# EAGLE library part SN74LVC2G34DCKR (library timearc)
DUAL BUFFER GATE
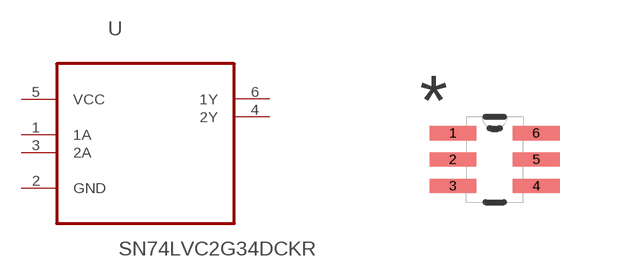
[diagram p5: symbol with the pads of SOT65P210X110-6N; footprint SOT65P210X110-6N]

Designator prefix U

## SN74LVC2G34DCKR (MPN: SN74LVC2G34DCKR; OC_FARNELL: 1595409; OC_NEWARK: 76C4214; PACKAGE: SC70-6; SUPPLIER: Texas Instruments)  [SOT65P210X110-6N]
1  1A  in
2  GND  pas
3  2A  in
4  2Y  out
5  VCC  pwr
6  1Y  out

## Footprint SOT65P210X110-6N (pad centres in mm)
smd 1.168 x 0.356: 1 -1.041,0.66; 2 -1.041,0; 3 -1.041,-0.66; 4 1.041,-0.66; 5 1.041,0; 6 1.041,0.66